# Altium schematic symbol library MCCQ-121.SchLib: 1 symbol
Pins are listed as number, name and electrical type; pins without a type are passive.

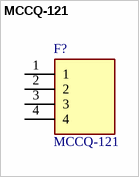
[diagram p0: symbol MCCQ-121]

## MCCQ-121
designator F?
The MCCQ-121 from Multicomp Pro is a PCB mount ATO fuse holder.; Geometry.Height: 8.3mm; Farnell Part Number: *; Farnell Price/Stock: *; Manufacturer_Name: Multicomp Pro; Manufacturer_Part_Number: MCCQ-121; Datasheet Link: *
footprint MCCQ121
pins: 1, 2, 3, 4